# EAGLE library part TDCR1060M (library TDCR1060M)
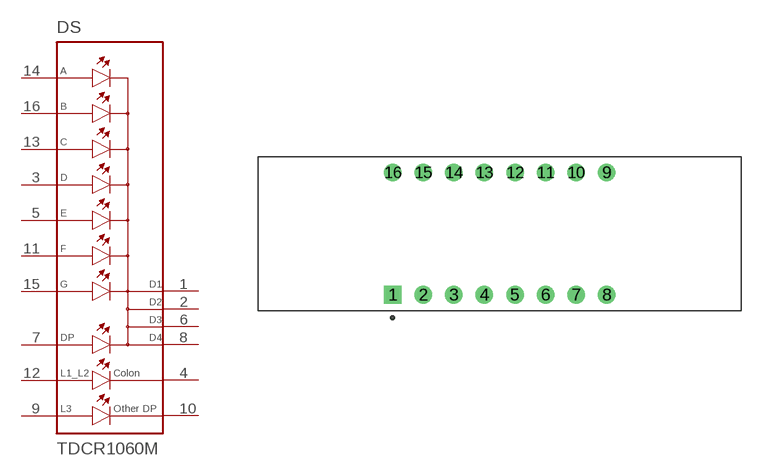
[diagram p0: symbol with the pads of DISPLAY_TDCR1060M; footprint DISPLAY_TDCR1060M]

Designator prefix DS

## TDCR1060M (CHECK_PRICES: https://www.snapeda.com/parts/TDCR1060M/Vishay+Semiconductor+Opto+Division/view-part/?ref=eda; DESCRIPTION: Display Modules - LED Character and Numeric Red 7-Segment Clock 4 Character Common Cathode 2V 20mA 0.504 H x 1.583 W x 0.276 D (12.80mm x 40.20mm x 7.00mm) 16-DIP (0.400, 10.16mm); DIGIKEY_PART_NUMBER: TDCR1060M-ND; MF: Vishay Semiconductor; MP: TDCR1060M; PACKAGE: None; PURCHASE-URL: https://www.snapeda.com/api/url_track_click_mouser/?unipart_id=2873271&manufacturer=Vishay Semiconductor&part_name=TDCR1060M&search_term=None; SNAPEDA_LINK: https://www.snapeda.com/parts/TDCR1060M/Vishay+Semiconductor+Opto+Division/view-part/?ref=snap)  [DISPLAY_TDCR1060M]
1  D1  pas
2  D2  pas
3  D  pas
4  4  pas
5  E  pas
6  D3  pas
7  DP  pas
8  D4  pas
9  L3  pas
10  10  pas
11  F  pas
12  L1_L2  pas
13  C  pas
14  A  pas
15  G  pas
16  B  pas

## Footprint DISPLAY_TDCR1060M (pad centres in mm)
drill 0.95 square: 1 -8.89,-5.08
drill 0.95: 2 -6.35,-5.08; 3 -3.81,-5.08; 4 -1.27,-5.08; 5 1.27,-5.08; 6 3.81,-5.08; 7 6.35,-5.08; 8 8.89,-5.08; 9 8.89,5.08; 10 6.35,5.08; 11 3.81,5.08; 12 1.27,5.08; 13 -1.27,5.08; 14 -3.81,5.08; 15 -6.35,5.08; 16 -8.89,5.08